# Altium footprint library Pod3.PcbLib: 10 footprints
Each footprint in its own frame and in the unit in brackets; x right, y up, seen from the top. Pads: shape width x height; smd on the part's side, far side on the other; paste and mask are expansions set on the pad; w line width, h text height; cw(c..) or ccw(c..) is an arc to the next point about the centre after c.
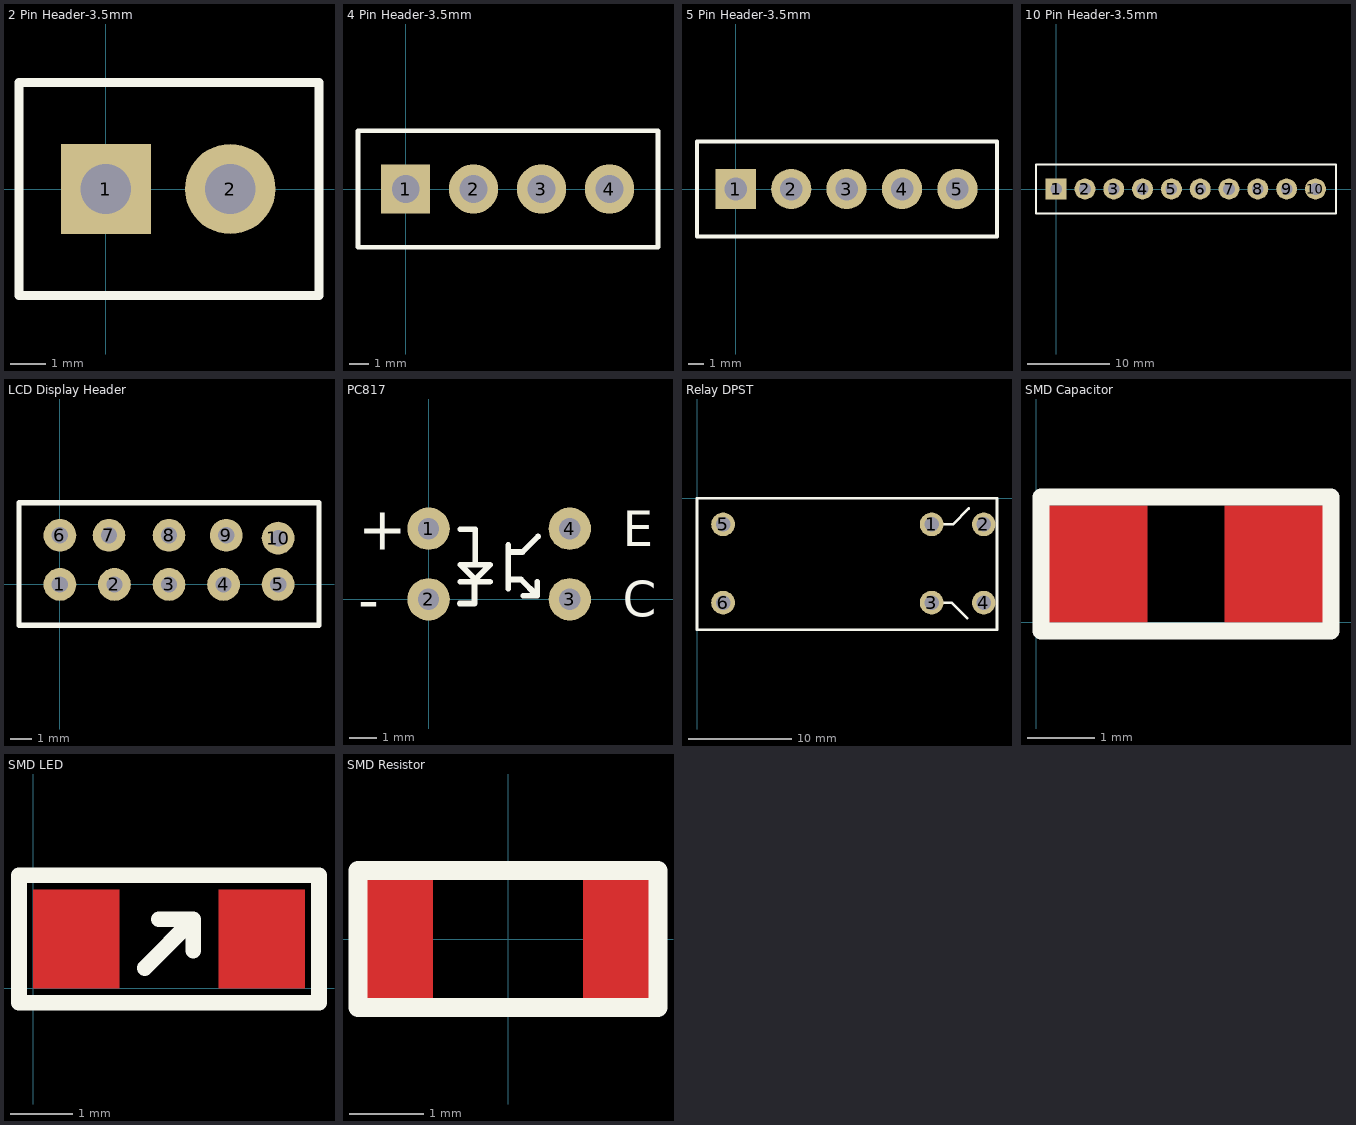
[diagram p0: the footprints below, top view; thin cyan lines are the x and y axes]

## 2 Pin Header-3.5mm [mil]
pads (2):
  rect 100x100 hole 56: 1(0,0)
  round 100 hole 56: 2(137.79,0)
Top Overlay:
  lines w10: -96.46,-118.11 -96.46,118.11 236.22,118.11 236.22,-118.11 -96.46,-118.11

## 4 Pin Header-3.5mm [mil]
pads (4):
  rect 100x100 hole 56: 1(0,0)
  round 100 hole 56: 2(137.79,0) 3(275.59,0) 4(413.38,0)
Top Overlay:
  lines w10: -96.46,-118.11 -96.46,118.11 511.81,118.11 511.81,-118.11 -96.46,-118.11

## 5 Pin Header-3.5mm [mil]
pads (5):
  rect 100x100 hole 56: 1(0,0)
  round 100 hole 56: 2(137.79,0) 3(275.59,0) 4(413.38,0) 5(551.18,0)
Top Overlay:
  lines w10: -96.46,-118.11 649.61,-118.11 649.61,118.11 -96.46,118.11 -96.46,-118.11

## 10 Pin Header-3.5mm [mil]
pads (10):
  rect 100x100 hole 56: 1(0,0)
  round 100 hole 56: 2(137.79,0) 3(275.59,0) 4(413.38,0) 5(551.18,0) 6(688.98,0) 7(826.77,0) 8(964.57,0) 9(1102.36,0) 10(1240.15,0)
Top Overlay:
  lines w10: -96.46,-118.11 -96.46,118.11 1338.58,118.11 1338.58,-118.11 -96.46,-118.11

## LCD Display Header [mil]
pads (10):
  round 60 hole 30: 1(0,0) 2(100,0) 3(200,0) 4(300,0) 5(400,0) 6(0,90) 7(90,90) 8(200,90) 9(305,90) 10(400,85)
Top Overlay:
  lines w10: -75,-75 475,-75 475,150 -75,150 -75,-75

## PC817 [mil] "Opto-Coupler"
pads (4):
  round 60 hole 30: 1(0,100) 2(0,0) 3(200,0) 4(200,100)
Top Overlay:
  lines w8: 44,-6 65,-6 65,25 ; 45,25 87,25 ; 45,99 66,99 66,49 ; 69,25 45,49 87,49 69,31 ; 113,15 113,77 ; 113,28 131,28 154,5 ; 113,67 133,67 155,89 ; 134,5 154,5 ; 154,25 154,5
  text "+" at -100,70 h60
  text "-" at -100,-30 h60
  text "E" at 275,75 h50
  text "C" at 275,-25 h50

## Relay DPST [mil]
pads (6):
  round 90 hole 55: 1(892.91,-99.21) 2(1091.34,-99.21) 3(892.91,-396.85) 4(1091.34,-396.85) 5(99.21,-99.21) 6(99.21,-396.85)
Top Overlay:
  lines w10: 892.91,-396.85 968.85,-396.85 1029,-457 ; 892.91,-99.21 973.79,-99.21 1034,-39 ; 0,-500 1141.73,-500 1141.73,0 0,0 0,-500

## SMD Capacitor [mil]
Top Layer:
  rectangle: 110,0 175,68
  rectangle: 0,0 65,68
Top Overlay:
  lines w10: 3,-5 3,73 172,73 172,-5 3,-5

## SMD LED [mil]
Top Layer:
  rectangle: 118.11,0 173.23,63
  rectangle: 0,0 55.12,63
Top Overlay:
  lines w10: 71,13 102,44 ; 80,44 102,44 ; 102,24 102,44 ; -9,-9 -9,72 182,72 182,-9 -9,-9

## SMD Resistor [mil]
Top Layer:
  rectangle: 39.5,-31.5 74.5,31.5
  rectangle: -74.5,-31.5 -39.5,31.5
Top Overlay:
  lines w10: -79,-36 -79,36 79,36 79,-36 -79,-36